# Altium schematic symbol library Resistors-PTH-2W.SchLib: 1 symbol
Pins are listed as number, name and electrical type; pins without a type are passive.

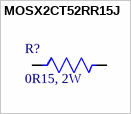
[diagram p0: symbol MOSX2CT52RR15J]

## MOSX2CT52RR15J
designator R?, comment 0R15, 2W
RES 0.15 OHM 5% 2W AXIAL; Manufacturer: KOA Speer; Manufacturer Part Number: MOSX2CT52RR15J; Supplier: Digikey; Supplier Part Number: 2019-MOSX2CT52RR15JCT-ND; RoHS: No; Category: Through-Hole Resistors; Stock: 62; Pricing: 1=0.41, 10=0.298, 25=0.2388, 50=0.1772, 100=0.125, 250=0.11136, 500=0.09544, 1000=0.07272 (USD); RoHS Compliant: No; ComponentLink1URL: https://datasheet.ciiva.com:443/pdfs/VipMasterIC/IC/KOAS/KOAS-S-A0004210342/KOAS-S-A0004210310-1.pdf?src-supplier=IHS+Markit; ComponentLink1Description: https://datasheet.ciiva.com:443/pdfs/VipMasterIC/IC/KOAS/KOAS-S-A0004210342/KOAS-S-A0004210310-1.pdf?src-supplier=IHS+Markit; ComponentLink2URL: http://components.arrow.com/part/dataview/43045961S7741623N5146?src-supplier=Arrow+Electronics; ComponentLink2Description: http://components.arrow.com/part/dataview/43045961S7741623N5146?src-supplier=Arrow+Electronics; ComponentLink3URL: http://www.mouser.com/ds/2/219/MOS-16613.pdf?src-supplier=Mouser; ComponentLink3Description: http://www.mouser.com/ds/2/219/MOS-16613.pdf?src-supplier=Mouser; ComponentLink4URL: https://www.verical.com/server-webapp/html/getDatasheet?partID=170912&src-supplier=Verical; ComponentLink4Description: https://www.verical.com/server-webapp/html/getDatasheet?partID=170912&src-supplier=Verical; ComponentLink5URL: https://datasheet.octopart.com/MOSX2CT52RR15J-KOA-Speer-datasheet-149653809.pdf?src-supplier=Element14; ComponentLink5Description: https://datasheet.octopart.com/MOSX2CT52RR15J-KOA-Speer-datasheet-149653809.pdf?src-supplier=Element14; Value: 0R15
footprint RES-0R15-2W
pins: 1, 2